# Altium schematic symbol library Connector Header 254 Right Angel.SchLib: 48 symbols
Pins are listed as number, name and electrical type; pins without a type are passive.

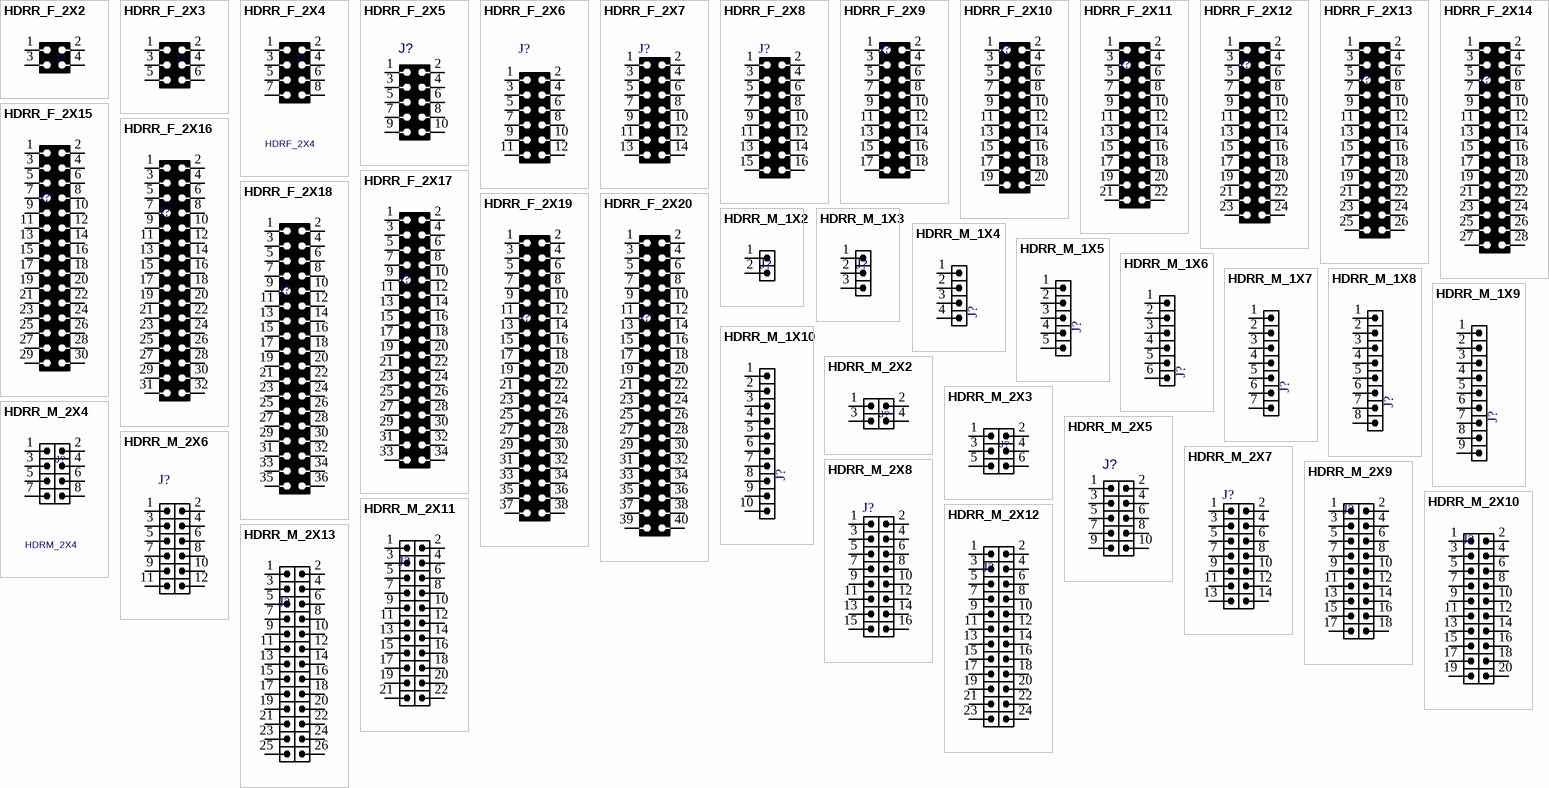
[diagram p0: symbols HDRR_F_2X2 to HDRR_M_2X13]

## HDRR_F_2X2
designator J?, comment HDRF_2X2  (value not drawn)
CONN, HEADER, RightAngle, Female, pitch: 2.54mm, 4POS; MANF_P#: MANF_PART#; MANF: MANF; VALUE: HDRF_2X2
footprint HDRR_F_2X2 (Connector; Header; 2x2 Position)
pins: 1, 2, 3, 4

## HDRR_F_2X3
designator J?, comment HDRF_2X3  (value not drawn)
CONN, HEADER, RightAngle, Female, pitch: 2.54mm, 6POS; MANF_P#: MANF_PART#; MANF: MANF; VALUE: HDRF_2X3
footprint HDRR_F_2X3 (Connector; Header; 3x2 Position)
pins: 1, 2, 3, 4, 5, 6

## HDRR_F_2X4
designator J?, comment HDRF_2X4
CONN, HEADER, RightAngle, Female, pitch: 2.54mm, 8POS; MANF_P#: MANF_PART#; MANF: MANF; VALUE: HDRF_2X4
footprint HDRR_F_2X4 (Connector; Header; 4x2 Position)
pins: 1, 2, 3, 4, 5, 6, 7, 8

## HDRR_F_2X5
designator J?, comment HDRF_2X5  (value not drawn)
CONN, HEADER, RightAngle, Female, pitch: 2.54mm, 10POS; VALUE: HDRF_2X5
footprint HDRR_F_2X5 (Connector; Header; 5x2 Position)
pins: 1, 2, 3, 4, 5, 6, 7, 8, 9, 10

## HDRR_F_2X6
designator J?, comment HDRF_2X7  (value not drawn)
CONN, HEADER, RightAngle, Female, pitch: 2.54mm, 14POS; VALUE: HDRF_2X7
footprint HDRR_F_2X7 (Connector; Header; 7x2 Position)
pins: 1, 2, 3, 4, 5, 6, 7, 8, 9, 10, 11, 12

## HDRR_F_2X7
designator J?, comment HDRF_2X7  (value not drawn)
CONN, HEADER, RightAngle, Female, pitch: 2.54mm, 14POS; VALUE: HDRF_2X7
footprint HDRR_F_2X7 (Connector; Header; 7x2 Position)
pins: 1, 2, 3, 4, 5, 6, 7, 8, 9, 10, 11, 12, 13, 14

## HDRR_F_2X8
designator J?, comment HDRF_2X8  (value not drawn)
CONN, HEADER, RightAngle, Female, pitch: 2.54mm, 16POS; VALUE: HDRF_2X8
footprint HDRR_F_2X8 (Connector; Header; 8x2 Position)
pins: 1, 2, 3, 4, 5, 6, 7, 8, 9, 10, 11, 12, 13, 14, 15, 16

## HDRR_F_2X9
designator J?, comment HDRF_2X9  (value not drawn)
CONN, HEADER, RightAngle, Female, pitch: 2.54mm, 18POS; VALUE: HDRF_2X9
footprint HDRR_F_2X9 (Connector; Header; 9x2 Position)
pins: 1, 2, 3, 4, 5, 6, 7, 8, 9, 10, 11, 12, 13, 14, 15, 16, 17, 18

## HDRR_F_2X10
designator J?, comment HDRF_2X10  (value not drawn)
CONN, HEADER, RightAngle, Female, pitch: 2.54mm, 20POS; VALUE: HDRF_2X10
footprint HDRR_F_2X10 (Connector; Header; 10x2 Position)
pins: 1, 2, 3, 4, 5, 6, 7, 8, 9, 10, 11, 12, 13, 14, 15, 16, 17, 18, 19, 20

## HDRR_F_2X11
designator J?, comment HDRF_2X11  (value not drawn)
CONN, HEADER, RightAngle, Female, pitch: 2.54mm, 22POS; VALUE: HDRF_2X11
footprint HDRR_F_2X11 (Connector; Header; 11x2 Position)
pins: 1, 2, 3, 4, 5, 6, 7, 8, 9, 10, 11, 12, 13, 14, 15, 16, 17, 18, 19, 20, 21, 22

## HDRR_F_2X12
designator J?, comment HDRF_2X12  (value not drawn)
CONN, HEADER, RightAngle, Female, pitch: 2.54mm, 24POS; VALUE: HDRF_2X12
footprint HDRR_F_2X12 (Connector; Header; 12x2 Position)
pins: 1, 2, 3, 4, 5, 6, 7, 8, 9, 10, 11, 12, 13, 14, 15, 16, 17, 18, 19, 20, 21, 22, 23, 24

## HDRR_F_2X13
designator J?, comment HDRF_2X13  (value not drawn)
CONN, HEADER, RightAngle, Female, pitch: 2.54mm, 26POS; VALUE: HDRF_2X13
footprint HDRR_F_2X13 (Connector; Header; 13x2 Position)
pins: 1, 2, 3, 4, 5, 6, 7, 8, 9, 10, 11, 12, 13, 14, 15, 16, 17, 18, 19, 20, 21, 22, 23, 24, 25, 26

## HDRR_F_2X14
designator J?, comment HDRF_2X14  (value not drawn)
CONN, HEADER, RightAngle, Female, pitch: 2.54mm, 28POS; VALUE: HDRF_2X14
footprint HDRR_F_2X14 (Connector; Header; 14x2 Position)
pins: 1, 2, 3, 4, 5, 6, 7, 8, 9, 10, 11, 12, 13, 14, 15, 16, 17, 18, 19, 20, 21, 22, 23, 24, 25, 26, 27, 28

## HDRR_F_2X15
designator J?, comment HDRF_2X15  (value not drawn)
CONN, HEADER, RightAngle, Female, pitch: 2.54mm, 30POS; VALUE: HDRF_2X15
footprint HDRR_F_2X15 (Connector; Header; 15x2 Position)
pins: 1, 2, 3, 4, 5, 6, 7, 8, 9, 10, 11, 12, 13, 14, 15, 16, 17, 18, 19, 20, 21, 22, 23, 24, 25, 26, 27, 28, 29, 30

## HDRR_F_2X16
designator J?, comment HDRF_2X16  (value not drawn)
CONN, HEADER, RightAngle, Female, pitch: 2.54mm, 32POS; VALUE: HDRF_2X16
footprint HDRR_F_2X16 (Connector; Header; 16x2 Position)
pins: 1, 2, 3, 4, 5, 6, 7, 8, 9, 10, 11, 12, 13, 14, 15, 16, 17, 18, 19, 20, 21, 22, 23, 24, 25, 26, 27, 28, 29, 30, 31, 32

## HDRR_F_2X17
designator J?, comment HDRF_2X17  (value not drawn)
CONN, HEADER, RightAngle, Female, pitch: 2.54mm, 34POS; VALUE: HDRF_2X17
footprint HDRR_F_2X17 (Connector; Header; 17x2 Position)
pins: 1, 2, 3, 4, 5, 6, 7, 8, 9, 10, 11, 12, 13, 14, 15, 16, 17, 18, 19, 20, 21, 22, 23, 24, 25, 26, 27, 28, 29, 30, 31, 32, 33, 34

## HDRR_F_2X18
designator J?, comment HDRF_2X18  (value not drawn)
CONN, HEADER, RightAngle, Female, pitch: 2.54mm, 36POS; VALUE: HDRF_2X18
footprint HDRR_F_2X18 (Connector; Header; 18x2 Position)
pins: 1, 2, 3, 4, 5, 6, 7, 8, 9, 10, 11, 12, 13, 14, 15, 16, 17, 18, 19, 20, 21, 22, 23, 24, 25, 26, 27, 28, 29, 30, 31, 32, 33, 34, 35, 36

## HDRR_F_2X19
designator J?, comment HDRF_2X19  (value not drawn)
CONN, HEADER, RightAngle, Female, pitch: 2.54mm, 38POS; VALUE: HDRF_2X19
footprint HDRR_F_2X19 (Connector; Header; 19x2 Position)
pins: 1, 2, 3, 4, 5, 6, 7, 8, 9, 10, 11, 12, 13, 14, 15, 16, 17, 18, 19, 20, 21, 22, 23, 24, 25, 26, 27, 28, 29, 30, 31, 32, 33, 34, 35, 36, 37, 38

## HDRR_F_2X20
designator J?, comment HDRF_2X20  (value not drawn)
CONN, HEADER, RightAngle, Female, pitch: 2.54mm, 40POS; VALUE: HDRF_2X20
footprint HDRR_F_2X20 (Connector; Header; 20x2 Position)
pins: 1, 2, 3, 4, 5, 6, 7, 8, 9, 10, 11, 12, 13, 14, 15, 16, 17, 18, 19, 20, 21, 22, 23, 24, 25, 26, 27, 28, 29, 30, 31, 32, 33, 34, 35, 36, 37, 38, 39, 40

## HDRR_M_1X2
designator J?, comment HDRM2  (value not drawn)
CONN, HEADER, RightAngle, Male, pitch: 2.54mm, 2POS; VALUE: HDRM2
footprint HDRR_M_1X2 (Connector; Header; 2 Position; Right Angle)
pins: 1, 2

## HDRR_M_1X3
designator J?, comment HDRM3  (value not drawn)
CONN, HEADER, RightAngle, Male, pitch: 2.54mm, 3POS; VALUE: HDRM3
footprint HDRR_M_1X3 (Connector; Header; 3 Position; Right Angle)
pins: 1, 2, 3

## HDRR_M_1X4
designator J?, comment HDR1X4  (value not drawn)
CONN, HEADER, RightAngle, Male, pitch: 2.54mm, 4POS; VALUE: HDRM4
footprint HDRR_M_1X4 (Connector; Header; 4 Position; Right Angle)
pins: 1, 2, 3, 4

## HDRR_M_1X5
designator J?, comment HDR1X5  (value not drawn)
CONN, HEADER, RightAngle, Male, pitch: 2.54mm, 5POS; VALUE: HDRM5
footprint HDRR_M_1X5 (Footprint not found)
pins: 1, 2, 3, 4, 5

## HDRR_M_1X6
designator J?, comment HDR1X6  (value not drawn)
CONN, HEADER, RightAngle, Male, pitch: 2.54mm, 6POS; VALUE: HDRM6
footprint HDRR_M_1X6 (Footprint not found)
pins: 1, 2, 3, 4, 5, 6

## HDRR_M_1X7
designator J?, comment HDR1X7  (value not drawn)
CONN, HEADER, RightAngle, Male, pitch: 2.54mm, 7POS; VALUE: HDRM7
footprint HDRR_M_1X7 (Footprint not found)
pins: 1, 2, 3, 4, 5, 6, 7

## HDRR_M_1X8
designator J?, comment HDR1X8  (value not drawn)
CONN, HEADER, RightAngle, Male, pitch: 2.54mm, 8POS; VALUE: HDRM8
footprint HDRR_M_1X8 (Footprint not found)
pins: 1, 2, 3, 4, 5, 6, 7, 8

## HDRR_M_1X9
designator J?, comment HDR1X9  (value not drawn)
CONN, HEADER, RightAngle, Male, pitch: 2.54mm, 9POS; VALUE: HDRM9
footprint HDRR_M_1X9 (Footprint not found)
pins: 1, 2, 3, 4, 5, 6, 7, 8, 9

## HDRR_M_1X10
designator J?, comment HDR1X10  (value not drawn)
CONN, HEADER, RightAngle, Male, pitch: 2.54mm, 10POS; VALUE: HDRM10
footprint HDRR_M_1X10 (Footprint not found)
pins: 1, 2, 3, 4, 5, 6, 7, 8, 9, 10

## HDRR_M_2X2
designator J?, comment HDRM_2X2  (value not drawn)
CONN, HEADER, RightAngle, Male, pitch: 2.54mm, 4POS; MANF_P#: MANF_PART#; MANF: MANF; VALUE: HDRM_2X2
footprint HDRR_M_2X2 (Connector; Header; 2x2 Position)
pins: 1, 2, 3, 4

## HDRR_M_2X3
designator J?, comment HDRM_2X3  (value not drawn)
CONN, HEADER, RightAngle, Male, pitch: 2.54mm, 6POS; MANF_P#: MANF_PART#; MANF: MANF; VALUE: HDRM_2X3
footprint HDRR_M_2X3 (Connector; Header; 3x2 Position)
pins: 1, 2, 3, 4, 5, 6

## HDRR_M_2X4
designator J?, comment HDRM_2X4
CONN, HEADER, RightAngle, Male, pitch: 2.54mm, 8POS; MANF_P#: MANF_PART#; MANF: MANF; VALUE: HDRM_2X4
footprint HDRR_M_2X4 (Connector; Header; 4x2 Position)
pins: 1, 2, 3, 4, 5, 6, 7, 8

## HDRR_M_2X5
designator J?, comment HDRM_2X5  (value not drawn)
CONN, HEADER, RightAngle, Male, pitch: 2.54mm, 10POS; VALUE: HDRM_2X5
footprint HDRR_M_2X5 (Connector; Header; 5x2 Position)
pins: 1, 2, 3, 4, 5, 6, 7, 8, 9, 10

## HDRR_M_2X6
designator J?, comment HDRM_2X7  (value not drawn)
CONN, HEADER, RightAngle, Male, pitch: 2.54mm, 14POS; VALUE: HDRM_2X7
footprint HDRR_M_2X7 (Connector; Header; 7x2 Position)
pins: 1, 2, 3, 4, 5, 6, 7, 8, 9, 10, 11, 12

## HDRR_M_2X7
designator J?, comment HDRM_2X7  (value not drawn)
CONN, HEADER, RightAngle, Male, pitch: 2.54mm, 14POS; VALUE: HDRM_2X7
footprint HDRR_M_2X7 (Connector; Header; 7x2 Position)
pins: 1, 2, 3, 4, 5, 6, 7, 8, 9, 10, 11, 12, 13, 14

## HDRR_M_2X8
designator J?, comment HDRM_2X8  (value not drawn)
CONN, HEADER, RightAngle, Male, pitch: 2.54mm, 16POS; VALUE: HDRM_2X8
footprint HDRR_M_2X8 (Connector; Header; 8x2 Position)
pins: 1, 2, 3, 4, 5, 6, 7, 8, 9, 10, 11, 12, 13, 14, 15, 16

## HDRR_M_2X9
designator J?, comment HDRM_2X9  (value not drawn)
CONN, HEADER, RightAngle, Male, pitch: 2.54mm, 18POS; VALUE: HDRM_2X9
footprint HDRR_M_2X9 (Connector; Header; 9x2 Position)
pins: 1, 2, 3, 4, 5, 6, 7, 8, 9, 10, 11, 12, 13, 14, 15, 16, 17, 18

## HDRR_M_2X10
designator J?, comment HDRM_2X10  (value not drawn)
CONN, HEADER, RightAngle, Male, pitch: 2.54mm, 20POS; VALUE: HDRM_2X10
footprint HDRR_M_2X10 (Connector; Header; 10x2 Position)
pins: 1, 2, 3, 4, 5, 6, 7, 8, 9, 10, 11, 12, 13, 14, 15, 16, 17, 18, 19, 20

## HDRR_M_2X11
designator J?, comment HDRM_2X11  (value not drawn)
CONN, HEADER, RightAngle, Male, pitch: 2.54mm, 22POS; VALUE: HDRM_2X11
footprint HDRR_M_2X11 (Connector; Header; 11x2 Position)
pins: 1, 2, 3, 4, 5, 6, 7, 8, 9, 10, 11, 12, 13, 14, 15, 16, 17, 18, 19, 20, 21, 22

## HDRR_M_2X12
designator J?, comment HDRM_2X12  (value not drawn)
CONN, HEADER, RightAngle, Male, pitch: 2.54mm, 24POS; VALUE: HDRM_2X12
footprint HDRR_M_2X12 (Connector; Header; 12x2 Position)
pins: 1, 2, 3, 4, 5, 6, 7, 8, 9, 10, 11, 12, 13, 14, 15, 16, 17, 18, 19, 20, 21, 22, 23, 24

## HDRR_M_2X13
designator J?, comment HDRM_2X13  (value not drawn)
CONN, HEADER, RightAngle, Male, pitch: 2.54mm, 26POS; VALUE: HDRM_2X13
footprint HDRR_M_2X13 (Connector; Header; 13x2 Position)
pins: 1, 2, 3, 4, 5, 6, 7, 8, 9, 10, 11, 12, 13, 14, 15, 16, 17, 18, 19, 20, 21, 22, 23, 24, 25, 26

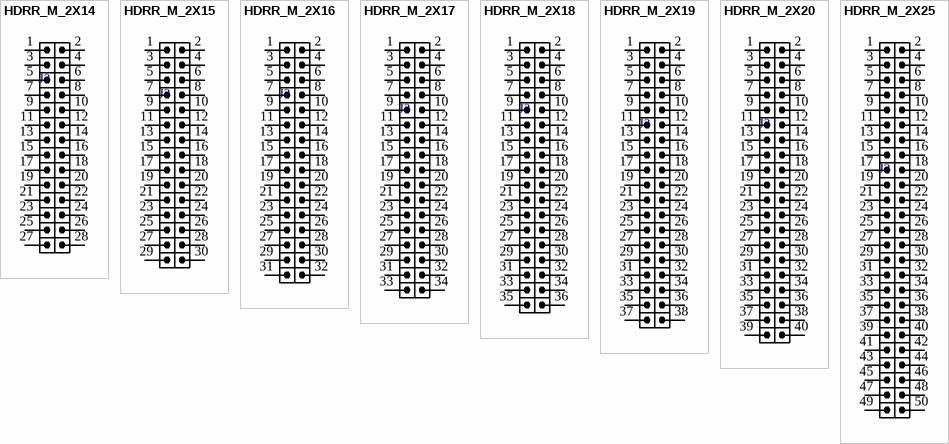
[diagram p1: symbols HDRR_M_2X14 to HDRR_M_2X25]

## HDRR_M_2X14
designator J?, comment HDRM_2X14  (value not drawn)
CONN, HEADER, RightAngle, Male, pitch: 2.54mm, 28POS; VALUE: HDRM_2X14
footprint HDRR_M_2X14 (Connector; Header; 14x2 Position)
pins: 1, 2, 3, 4, 5, 6, 7, 8, 9, 10, 11, 12, 13, 14, 15, 16, 17, 18, 19, 20, 21, 22, 23, 24, 25, 26, 27, 28

## HDRR_M_2X15
designator J?, comment HDRM_2X15  (value not drawn)
CONN, HEADER, RightAngle, Male, pitch: 2.54mm, 30POS; VALUE: HDRM_2X15
footprint HDRR_M_2X15 (Connector; Header; 15x2 Position)
pins: 1, 2, 3, 4, 5, 6, 7, 8, 9, 10, 11, 12, 13, 14, 15, 16, 17, 18, 19, 20, 21, 22, 23, 24, 25, 26, 27, 28, 29, 30

## HDRR_M_2X16
designator J?, comment HDRM_2X16  (value not drawn)
CONN, HEADER, RightAngle, Male, pitch: 2.54mm, 32POS; VALUE: HDRM_2X16
footprint HDRR_M_2X16 (Connector; Header; 16x2 Position)
pins: 1, 2, 3, 4, 5, 6, 7, 8, 9, 10, 11, 12, 13, 14, 15, 16, 17, 18, 19, 20, 21, 22, 23, 24, 25, 26, 27, 28, 29, 30, 31, 32

## HDRR_M_2X17
designator J?, comment HDRM_2X17  (value not drawn)
CONN, HEADER, RightAngle, Male, pitch: 2.54mm, 34POS; VALUE: HDRM_2X17
footprint HDRR_M_2X17 (Connector; Header; 17x2 Position)
pins: 1, 2, 3, 4, 5, 6, 7, 8, 9, 10, 11, 12, 13, 14, 15, 16, 17, 18, 19, 20, 21, 22, 23, 24, 25, 26, 27, 28, 29, 30, 31, 32, 33, 34

## HDRR_M_2X18
designator J?, comment HDRM_2X18  (value not drawn)
CONN, HEADER, RightAngle, Male, pitch: 2.54mm, 36POS; VALUE: HDRM_2X18
footprint HDRR_M_2X18 (Connector; Header; 18x2 Position)
pins: 1, 2, 3, 4, 5, 6, 7, 8, 9, 10, 11, 12, 13, 14, 15, 16, 17, 18, 19, 20, 21, 22, 23, 24, 25, 26, 27, 28, 29, 30, 31, 32, 33, 34, 35, 36

## HDRR_M_2X19
designator J?, comment HDRM_2X19  (value not drawn)
CONN, HEADER, RightAngle, Male, pitch: 2.54mm, 38POS; VALUE: HDRM_2X19
footprint HDRR_M_2X19 (Connector; Header; 19x2 Position)
pins: 1, 2, 3, 4, 5, 6, 7, 8, 9, 10, 11, 12, 13, 14, 15, 16, 17, 18, 19, 20, 21, 22, 23, 24, 25, 26, 27, 28, 29, 30, 31, 32, 33, 34, 35, 36, 37, 38

## HDRR_M_2X20
designator J?, comment HDRM_2X20  (value not drawn)
CONN, HEADER, RightAngle, Male, pitch: 2.54mm, 40POS; VALUE: HDRM_2X20
footprint HDRR_M_2X20 (Connector; Header; 20x2 Position)
pins: 1, 2, 3, 4, 5, 6, 7, 8, 9, 10, 11, 12, 13, 14, 15, 16, 17, 18, 19, 20, 21, 22, 23, 24, 25, 26, 27, 28, 29, 30, 31, 32, 33, 34, 35, 36, 37, 38, 39, 40

## HDRR_M_2X25
designator J?, comment HDRM_2X25  (value not drawn)
CONN, HEADER, RightAngle, Male, pitch: 2.54mm, 50POS; VALUE: HDRM_2X25
footprint HDRR_M_2X25 (Footprint not found)
pins: 1, 2, 3, 4, 5, 6, 7, 8, 9, 10, 11, 12, 13, 14, 15, 16, 17, 18, 19, 20, 21, 22, 23, 24, 25, 26, 27, 28, 29, 30, 31, 32, 33, 34, 35, 36, 37, 38, 39 38, 40 39, 41 39, 42 40, 43 40, 44 41, 45 41, 46 42, 47 42, 48 43, 49 43, 50 44